# EAGLE library part HIH6131 (library SparkFun-AnalogIC)
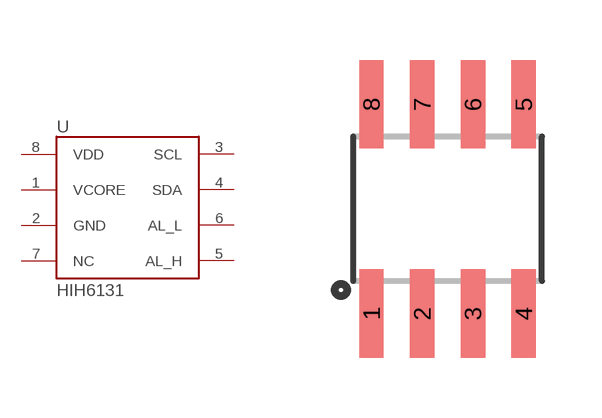
[diagram p9: symbol with the pads of SOIC8; footprint SOIC8]

Designator prefix -

## HIH6131  [SOIC8]
1  VCORE
2  GND
3  SCL
4  SDA
5  AL_H
6  AL_L
7  NC
8  VDD

## Footprint SOIC8 (pad centres in mm)
smd 0.61 x 2.21: 1 -1.905,-2.616; 2 -0.635,-2.616; 3 0.635,-2.616; 4 1.905,-2.616; 5 1.905,2.616; 6 0.635,2.616; 7 -0.635,2.616; 8 -1.905,2.616